# Altium schematic symbol library DMP2045U-7.SchLib: 1 symbol
Pins are listed as number, name and electrical type; pins without a type are passive.

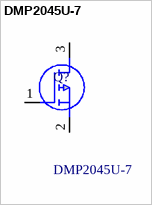
[diagram p0: symbol DMP2045U-7]

## DMP2045U-7
designator Q?
DMP2045U-7 P-Channel MOSFET, 3.5 (State) A, 4.3 (Steady) A, 20 V, 3-Pin SOT-23 Diodes Inc; Manufacturer_Name: Diodes Incorporated; Geometry.Height: 1.15mm; Mouser Part Number: 621-DMP2045U-7; Mouser Price/Stock: https://www.mouser.co.uk/ProductDetail/Diodes-Incorporated/DMP2045U-7?qs=rrS6PyfT74erdUwo5CgHTg%3D%3D; Manufacturer_Part_Number: DMP2045U-7; Datasheet Link: https://www.diodes.com//assets/Datasheets/DMP2045U.pdf
footprint SOT96P240X115-3N
pins: 1 G, 2 S, 3 D